# EAGLE library part STSPIN32G4 (library STSPIN32G4)
High performance 3-phase motor controller with embedded STM32G4 MCU Source: Datasheet <https://www.st.com/resource/en/datasheet/stspin32g4.pdf>
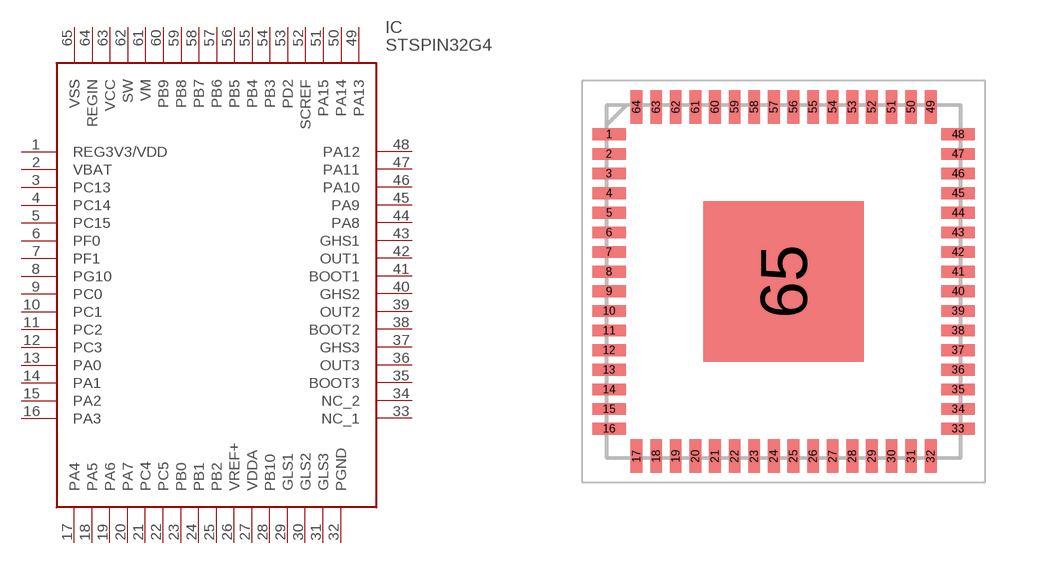
[diagram p0: symbol with the pads of QFN50P900X900X100-65N; footprint QFN50P900X900X100-65N]

Designator prefix IC

## STSPIN32G4 (Description: High performance 3-phase motor controller with embedded STM32G4 MCU; Height: 1mm; Manufacturer_Name: STMicroelectronics; Manufacturer_Part_Number: STSPIN32G4; Mouser_Part_Number: 511-STSPIN32G4; Mouser_Price-Stock: https://www.mouser.co.uk/ProductDetail/STMicroelectronics/STSPIN32G4?qs=DRkmTr78QAT8JT82Qbof2g%3D%3D)  [QFN50P900X900X100-65N]
1  REG3V3/VDD
2  VBAT
3  PC13
4  PC14
5  PC15
6  PF0
7  PF1
8  PG10
9  PC0
10  PC1
11  PC2
12  PC3
13  PA0
14  PA1
15  PA2
16  PA3
17  PA4
18  PA5
19  PA6
20  PA7
21  PC4
22  PC5
23  PB0
24  PB1
25  PB2
26  VREF+
27  VDDA
28  PB10
29  GLS1
30  GLS2
31  GLS3
32  PGND
33  NC_1
34  NC_2
35  BOOT3
36  OUT3
37  GHS3
38  BOOT2
39  OUT2
40  GHS2
41  BOOT1
42  OUT1
43  GHS1
44  PA8
45  PA9
46  PA10
47  PA11
48  PA12
49  PA13
50  PA14
51  PA15
52  SCREF
53  PD2
54  PB3
55  PB4
56  PB5
57  PB6
58  PB7
59  PB8
60  PB9
61  VM
62  SW
63  VCC
64  REGIN
65  VSS

## Footprint QFN50P900X900X100-65N (pad centres in mm)
STSPIN32G4
smd 0.85 x 0.3: 1 -4.45,3.75; 2 -4.45,3.25; 3 -4.45,2.75; 4 -4.45,2.25; 5 -4.45,1.75; 6 -4.45,1.25; 7 -4.45,0.75; 8 -4.45,0.25; 9 -4.45,-0.25; 10 -4.45,-0.75; 11 -4.45,-1.25; 12 -4.45,-1.75; 13 -4.45,-2.25; 14 -4.45,-2.75; 15 -4.45,-3.25; 16 -4.45,-3.75; 33 4.45,-3.75; 34 4.45,-3.25; 35 4.45,-2.75; 36 4.45,-2.25; 37 4.45,-1.75; 38 4.45,-1.25; 39 4.45,-0.75; 40 4.45,-0.25; 41 4.45,0.25; 42 4.45,0.75; 43 4.45,1.25; 44 4.45,1.75; 45 4.45,2.25; 46 4.45,2.75; 47 4.45,3.25; 48 4.45,3.75
smd 0.3 x 0.85: 17 -3.75,-4.45; 18 -3.25,-4.45; 19 -2.75,-4.45; 20 -2.25,-4.45; 21 -1.75,-4.45; 22 -1.25,-4.45; 23 -0.75,-4.45; 24 -0.25,-4.45; 25 0.25,-4.45; 26 0.75,-4.45; 27 1.25,-4.45; 28 1.75,-4.45; 29 2.25,-4.45; 30 2.75,-4.45; 31 3.25,-4.45; 32 3.75,-4.45; 49 3.75,4.45; 50 3.25,4.45; 51 2.75,4.45; 52 2.25,4.45; 53 1.75,4.45; 54 1.25,4.45; 55 0.75,4.45; 56 0.25,4.45; 57 -0.25,4.45; 58 -0.75,4.45; 59 -1.25,4.45; 60 -1.75,4.45; 61 -2.25,4.45; 62 -2.75,4.45; 63 -3.25,4.45; 64 -3.75,4.45
smd 4.1 x 4.1: 65 0,0